# Altium footprint library MOLEX_39-30-xxxx.PcbLib: 2 footprints
Each footprint in its own frame and in the unit in brackets; x right, y up, seen from the top. Pads: shape width x height; smd on the part's side, far side on the other; paste and mask are expansions set on the pad; w line width, h text height; cw(c..) or ccw(c..) is an arc to the next point about the centre after c.
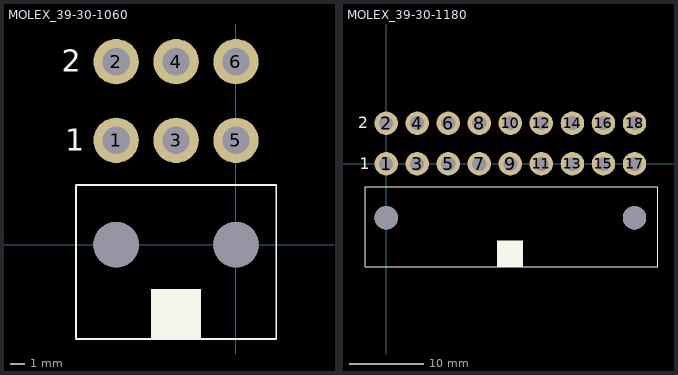
[diagram p0: the footprints below, top view; thin cyan lines are the x and y axes]

## MOLEX_39-30-1060 [mm]
pads (8):
  round 3.175 hole 1.905: 1(-8.382,7.3) 2(-8.382,12.8) 3(-4.191,7.3) 4(-4.191,12.8) 5(0,7.3) 6(0,12.8)
  round 3.175 hole 3.175 unplated: ""(-8.382,0) ""(0,0)
Top Overlay:
  rectangle: -5.941,-6.601 -2.441,-3.101
  lines w0.127: -11.2,-6.6 -11.2,4.164 2.818,4.164 2.818,-6.6 -11.2,-6.6
  text "2" at -12.192,12.08 h1.52
  text "1" at -11.938,6.58 h1.52
3D body "039301060.stp": height 11.4, standoff -3.6, extent -11.291,-6.645 2.909,13.29

## MOLEX_39-30-1180 [mm]
pads (20):
  round 3.175 hole 1.905: 1(0,0) 2(0,5.5) 3(4.2,0) 4(4.2,5.5) 5(8.4,0) 6(8.4,5.5) 7(12.6,0) 8(12.6,5.5) 9(16.8,0) 10(16.8,5.5) 11(21,0) 12(21,5.5) 13(25.2,0) 14(25.2,5.5) 15(29.4,0) 16(29.4,5.5) 17(33.6,0) 18(33.6,5.5)
  round 3.175 hole 3.175 unplated: ""(0,-7.3) ""(33.6,-7.3)
Top Overlay:
  rectangle: 14.989,-13.901 18.489,-10.401
  lines w0.127: -2.818,-13.9 36.779,-13.9 36.779,-3.136 -2.818,-3.136 -2.818,-13.9
  text "1" at -3.556,-0.72 h1.52
  text "2" at -3.81,4.78 h1.52
3D body "039301180.stp": height 11.4, standoff -3.6, extent -2.707,-13.788 36.693,6.147